# Altium integrated library Altium_WCAP-CSGP (rev22a).IntLib: 953 symbols (part 13 of 17)
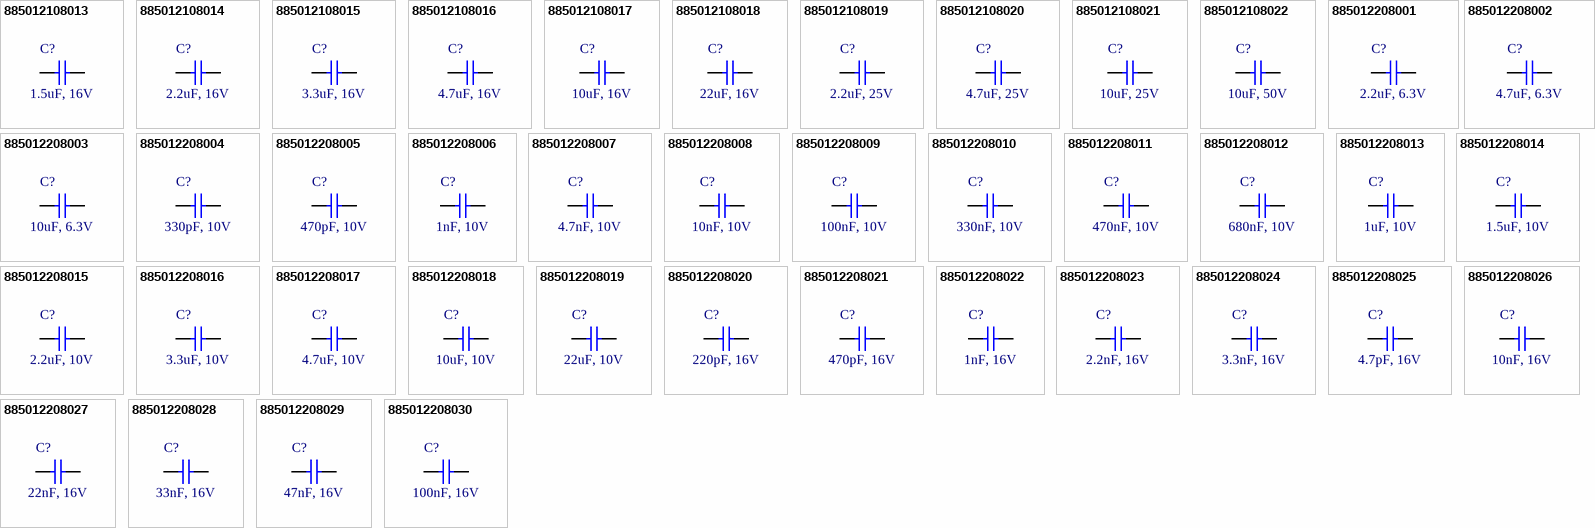
[diagram p39: symbols 885012108013 to 885012208030]

## 885012108014
designator C?, comment 2.2uF, 16V
WCAP-CSGP Multilayer Ceramic Chip Capacitor, General Purpose, size 1206, X5R, 2.2uF, 16V; Manufacturer: Wurth Elektronik; Manufacturer Part Number: 885012108014; Capacitance Tolerance: +/-20%; Dissipation Factor: 5%; Isolation Resistance: 0.2GOhm; Technical Reference: X5R1206225M016DFCT10000; Capacitance: 2.2uF; Ceramic Type: X5R; ComponentLink1Description: Manufacturer Link; ComponentLink1URL: http://www.we-online.de; ComponentLink2Description: Datasheet; ComponentLink2URL: https://www.we-online.com/catalog/datasheet/885012108014.pdf; Height: 1.15mm; Length: 3.2mm; Mounting Technology: SMT; Operating Temperature max.: 85C; Operating Temperature min.: -55C; Packaging: Tape and Reel; Rated Voltage: 16V; Size: 1206; Width: 1.6mm
footprint WCAP-CSGP_1206_L3.2W1.6H1.15
pins: 1, 2

## 885012108015
designator C?, comment 3.3uF, 16V
WCAP-CSGP Multilayer Ceramic Chip Capacitor, General Purpose, size 1206, X5R, 3.3uF, 16V; Manufacturer: Wurth Elektronik; Manufacturer Part Number: 885012108015; Capacitance Tolerance: +/-20%; Dissipation Factor: 5%; Isolation Resistance: 0.2GOhm; Technical Reference: X5R1206335M016DFCT10000; Capacitance: 3.3uF; Ceramic Type: X5R; ComponentLink1Description: Manufacturer Link; ComponentLink1URL: http://www.we-online.de; ComponentLink2Description: Datasheet; ComponentLink2URL: https://www.we-online.com/catalog/datasheet/885012108015.pdf; Height: 1.6mm; Length: 3.2mm; Mounting Technology: SMT; Operating Temperature max.: 85C; Operating Temperature min.: -55C; Packaging: Tape and Reel; Rated Voltage: 16V; Size: 1206; Width: 1.6mm
footprint WCAP-CSGP_1206_L3.2W1.6H1.6
pins: 1, 2

## 885012108016
designator C?, comment 4.7uF, 16V
WCAP-CSGP Multilayer Ceramic Chip Capacitor, General Purpose, size 1206, X5R, 4.7uF, 16V; Manufacturer: Wurth Elektronik; Manufacturer Part Number: 885012108016; Capacitance Tolerance: +/-20%; Dissipation Factor: 10%; Isolation Resistance: 0.1GOhm; Technical Reference: X5R1206475M016DFCT10000; Capacitance: 4.7uF; Ceramic Type: X5R; ComponentLink1Description: Manufacturer Link; ComponentLink1URL: http://www.we-online.de; ComponentLink2Description: Datasheet; ComponentLink2URL: https://www.we-online.com/catalog/datasheet/885012108016.pdf; Height: 1.6mm; Length: 3.2mm; Mounting Technology: SMT; Operating Temperature max.: 85C; Operating Temperature min.: -55C; Packaging: Tape and Reel; Rated Voltage: 16V; Size: 1206; Width: 1.6mm
footprint WCAP-CSGP_1206_L3.2W1.6H1.6
pins: 1, 2

## 885012108017
designator C?, comment 10uF, 16V
WCAP-CSGP Multilayer Ceramic Chip Capacitor, General Purpose, size 1206, X5R, 10uF, 16V; Manufacturer: Wurth Elektronik; Manufacturer Part Number: 885012108017; Capacitance Tolerance: +/-20%; Dissipation Factor: 10%; Isolation Resistance: 0.01GOhm; Technical Reference: X5R1206106M016DFCT10000; Capacitance: 10uF; Ceramic Type: X5R; ComponentLink1Description: Manufacturer Link; ComponentLink1URL: http://www.we-online.de; ComponentLink2Description: Datasheet; ComponentLink2URL: https://www.we-online.com/catalog/datasheet/885012108017.pdf; Height: 1.6mm; Length: 3.2mm; Mounting Technology: SMT; Operating Temperature max.: 85C; Operating Temperature min.: -55C; Packaging: Tape and Reel; Rated Voltage: 16V; Size: 1206; Width: 1.6mm
footprint WCAP-CSGP_1206_L3.2W1.6H1.6
pins: 1, 2

## 885012108018
designator C?, comment 22uF, 16V
WCAP-CSGP Multilayer Ceramic Chip Capacitor, General Purpose, size 1206, X5R, 22uF, 16V; Manufacturer: Wurth Elektronik; Manufacturer Part Number: 885012108018; Capacitance Tolerance: +/-20%; Dissipation Factor: 10%; Isolation Resistance: 0.005GOhm; Technical Reference: X5R1206226M016DFCT10000; Capacitance: 22uF; Ceramic Type: X5R; ComponentLink1Description: Manufacturer Link; ComponentLink1URL: http://www.we-online.de; ComponentLink2Description: Datasheet; ComponentLink2URL: https://www.we-online.com/catalog/datasheet/885012108018.pdf; Height: 1.6mm; Length: 3.2mm; Mounting Technology: SMT; Operating Temperature max.: 85C; Operating Temperature min.: -55C; Packaging: Tape and Reel; Rated Voltage: 16V; Size: 1206; Width: 1.6mm
footprint WCAP-CSGP_1206_L3.2W1.6H1.6
pins: 1, 2

## 885012108019
designator C?, comment 2.2uF, 25V
WCAP-CSGP Multilayer Ceramic Chip Capacitor, General Purpose, size 1206, X5R, 2.2uF, 25V; Manufacturer: Wurth Elektronik; Manufacturer Part Number: 885012108019; Capacitance Tolerance: +/-20%; Dissipation Factor: 3.5%; Isolation Resistance: 0.2GOhm; Technical Reference: X5R1206225M025DFCT10000; Capacitance: 2.2uF; Ceramic Type: X5R; ComponentLink1Description: Manufacturer Link; ComponentLink1URL: http://www.we-online.de; ComponentLink2Description: Datasheet; ComponentLink2URL: https://www.we-online.com/catalog/datasheet/885012108019.pdf; Height: 1.6mm; Length: 3.2mm; Mounting Technology: SMT; Operating Temperature max.: 85C; Operating Temperature min.: -55C; Packaging: Tape and Reel; Rated Voltage: 25V; Size: 1206; Width: 1.6mm
footprint WCAP-CSGP_1206_L3.2W1.6H1.6
pins: 1, 2

## 885012108020
designator C?, comment 4.7uF, 25V
WCAP-CSGP Multilayer Ceramic Chip Capacitor, General Purpose, size 1206, X5R, 4.7uF, 25V; Manufacturer: Wurth Elektronik; Manufacturer Part Number: 885012108020; Capacitance Tolerance: +/-20%; Dissipation Factor: 7%; Isolation Resistance: 0.1GOhm; Technical Reference: X5R1206475M025DFCT10000; Capacitance: 4.7uF; Ceramic Type: X5R; ComponentLink1Description: Manufacturer Link; ComponentLink1URL: http://www.we-online.de; ComponentLink2Description: Datasheet; ComponentLink2URL: https://www.we-online.com/catalog/datasheet/885012108020.pdf; Height: 1.6mm; Length: 3.2mm; Mounting Technology: SMT; Operating Temperature max.: 85C; Operating Temperature min.: -55C; Packaging: Tape and Reel; Rated Voltage: 25V; Size: 1206; Width: 1.6mm
footprint WCAP-CSGP_1206_L3.2W1.6H1.6
pins: 1, 2

## 885012108021
designator C?, comment 10uF, 25V
WCAP-CSGP Multilayer Ceramic Chip Capacitor, General Purpose, size 1206, X5R, 10uF, 25V; Manufacturer: Wurth Elektronik; Manufacturer Part Number: 885012108021; Capacitance Tolerance: +/-20%; Dissipation Factor: 10%; Isolation Resistance: 0.01GOhm; Technical Reference: X5R1206106M025DFCT10000; Capacitance: 10uF; Ceramic Type: X5R; ComponentLink1Description: Manufacturer Link; ComponentLink1URL: http://www.we-online.de; ComponentLink2Description: Datasheet; ComponentLink2URL: https://www.we-online.com/catalog/datasheet/885012108021.pdf; Height: 1.6mm; Length: 3.2mm; Mounting Technology: SMT; Operating Temperature max.: 85C; Operating Temperature min.: -55C; Packaging: Tape and Reel; Rated Voltage: 25V; Size: 1206; Width: 1.6mm
footprint WCAP-CSGP_1206_L3.2W1.6H1.6
pins: 1, 2

## 885012108022
designator C?, comment 10uF, 50V
WCAP-CSGP Multilayer Ceramic Chip Capacitor, General Purpose, size 1206, X5R, 10uF, 50V; Manufacturer: Wurth Elektronik; Manufacturer Part Number: 885012108022; Capacitance Tolerance: +/-10%; Dissipation Factor: 10%; Isolation Resistance: 0.005GOhm; Technical Reference: X5R1206106K050DFCT10000; Capacitance: 10uF; Ceramic Type: X5R; ComponentLink1Description: Manufacturer Link; ComponentLink1URL: http://www.we-online.de; ComponentLink2Description: Datasheet; ComponentLink2URL: https://www.we-online.com/catalog/datasheet/885012108022.pdf; Height: 1.6mm; Length: 3.2mm; Mounting Technology: SMT; Operating Temperature max.: 85C; Operating Temperature min.: -55C; Packaging: Tape and Reel; Rated Voltage: 50V; Size: 1206; Width: 1.6mm
footprint WCAP-CSGP_1206_L3.2W1.6H1.6
pins: 1, 2

## 885012208001
designator C?, comment 2.2uF, 6.3V
WCAP-CSGP Multilayer Ceramic Chip Capacitor, General Purpose, size 1206, X7R, 2.2uF, 6.3V; Manufacturer: Wurth Elektronik; Manufacturer Part Number: 885012208001; Capacitance Tolerance: +/-10%; Dissipation Factor: 10%; Isolation Resistance: 0.05GOhm; Technical Reference: X7R1206225K6R3DFCT10000; Capacitance: 2.2uF; Ceramic Type: X7R; ComponentLink1Description: Manufacturer Link; ComponentLink1URL: http://www.we-online.de; ComponentLink2Description: Datasheet; ComponentLink2URL: https://www.we-online.com/catalog/datasheet/885012208001.pdf; Height: 1.15mm; Length: 3.2mm; Mounting Technology: SMT; Operating Temperature max.: 125C; Operating Temperature min.: -55C; Packaging: Tape and Reel; Rated Voltage: 6.3V; Size: 1206; Width: 1.6mm
footprint WCAP-CSGP_1206_L3.2W1.6H1.15
pins: 1, 2

## 885012208002
designator C?, comment 4.7uF, 6.3V
WCAP-CSGP Multilayer Ceramic Chip Capacitor, General Purpose, size 1206, X7R, 4.7uF, 6.3V; Manufacturer: Wurth Elektronik; Manufacturer Part Number: 885012208002; Capacitance Tolerance: +/-10%; Dissipation Factor: 10%; Isolation Resistance: 0.02GOhm; Technical Reference: X7R1206475K6R3DFCT10000; Capacitance: 4.7uF; Ceramic Type: X7R; ComponentLink1Description: Manufacturer Link; ComponentLink1URL: http://www.we-online.de; ComponentLink2Description: Datasheet; ComponentLink2URL: https://www.we-online.com/catalog/datasheet/885012208002.pdf; Height: 1.6mm; Length: 3.2mm; Mounting Technology: SMT; Operating Temperature max.: 125C; Operating Temperature min.: -55C; Packaging: Tape and Reel; Rated Voltage: 6.3V; Size: 1206; Width: 1.6mm
footprint WCAP-CSGP_1206_L3.2W1.6H1.6
pins: 1, 2

## 885012208003
designator C?, comment 10uF, 6.3V
WCAP-CSGP Multilayer Ceramic Chip Capacitor, General Purpose, size 1206, X7R, 10uF, 6.3V; Manufacturer: Wurth Elektronik; Manufacturer Part Number: 885012208003; Capacitance Tolerance: +/-10%; Dissipation Factor: 10%; Isolation Resistance: 0.005GOhm; Technical Reference: X7R1206106K6R3DFCT10000; Capacitance: 10uF; Ceramic Type: X7R; ComponentLink1Description: Manufacturer Link; ComponentLink1URL: http://www.we-online.de; ComponentLink2Description: Datasheet; ComponentLink2URL: https://www.we-online.com/catalog/datasheet/885012208003.pdf; Height: 1.6mm; Length: 3.2mm; Mounting Technology: SMT; Operating Temperature max.: 125C; Operating Temperature min.: -55C; Packaging: Tape and Reel; Rated Voltage: 6.3V; Size: 1206; Width: 1.6mm
footprint WCAP-CSGP_1206_L3.2W1.6H1.6
pins: 1, 2

## 885012208004
designator C?, comment 330pF, 10V
WCAP-CSGP Multilayer Ceramic Chip Capacitor, General Purpose, size 1206, X7R, 330pF, 10V; Manufacturer: Wurth Elektronik; Manufacturer Part Number: 885012208004; Capacitance Tolerance: +/-10%; Dissipation Factor: 5%; Isolation Resistance: 10GOhm; Technical Reference: X7R1206331K010DFCT10000; Capacitance: 330pF; Ceramic Type: X7R; ComponentLink1Description: Manufacturer Link; ComponentLink1URL: http://www.we-online.de; ComponentLink2Description: Datasheet; ComponentLink2URL: https://www.we-online.com/catalog/datasheet/885012208004.pdf; Height: 0.8mm; Length: 3.2mm; Mounting Technology: SMT; Operating Temperature max.: 125C; Operating Temperature min.: -55C; Packaging: Tape and Reel; Rated Voltage: 10V; Size: 1206; Width: 1.6mm
footprint WCAP-CSGP_1206_L3.2W1.6H0.8
pins: 1, 2

## 885012208005
designator C?, comment 470pF, 10V
WCAP-CSGP Multilayer Ceramic Chip Capacitor, General Purpose, size 1206, X7R, 470pF, 10V; Manufacturer: Wurth Elektronik; Manufacturer Part Number: 885012208005; Capacitance Tolerance: +/-10%; Dissipation Factor: 5%; Isolation Resistance: 10GOhm; Technical Reference: X7R1206471K010DFCT10000; Capacitance: 470pF; Ceramic Type: X7R; ComponentLink1Description: Manufacturer Link; ComponentLink1URL: http://www.we-online.de; ComponentLink2Description: Datasheet; ComponentLink2URL: https://www.we-online.com/catalog/datasheet/885012208005.pdf; Height: 0.8mm; Length: 3.2mm; Mounting Technology: SMT; Operating Temperature max.: 125C; Operating Temperature min.: -55C; Packaging: Tape and Reel; Rated Voltage: 10V; Size: 1206; Width: 1.6mm
footprint WCAP-CSGP_1206_L3.2W1.6H0.8
pins: 1, 2

## 885012208006
designator C?, comment 1nF, 10V
WCAP-CSGP Multilayer Ceramic Chip Capacitor, General Purpose, size 1206, X7R, 1nF, 10V; Manufacturer: Wurth Elektronik; Manufacturer Part Number: 885012208006; Capacitance Tolerance: +/-10%; Dissipation Factor: 5%; Isolation Resistance: 10GOhm; Technical Reference: X7R1206102K010DFCT10000; Capacitance: 1nF; Ceramic Type: X7R; ComponentLink1Description: Manufacturer Link; ComponentLink1URL: http://www.we-online.de; ComponentLink2Description: Datasheet; ComponentLink2URL: https://www.we-online.com/catalog/datasheet/885012208006.pdf; Height: 0.8mm; Length: 3.2mm; Mounting Technology: SMT; Operating Temperature max.: 125C; Operating Temperature min.: -55C; Packaging: Tape and Reel; Rated Voltage: 10V; Size: 1206; Width: 1.6mm
footprint WCAP-CSGP_1206_L3.2W1.6H0.8
pins: 1, 2

## 885012208007
designator C?, comment 4.7nF, 10V
WCAP-CSGP Multilayer Ceramic Chip Capacitor, General Purpose, size 1206, X7R, 4.7nF, 10V; Manufacturer: Wurth Elektronik; Manufacturer Part Number: 885012208007; Capacitance Tolerance: +/-10%; Dissipation Factor: 5%; Isolation Resistance: 10GOhm; Technical Reference: X7R1206472K010DFCT10000; Capacitance: 4.7nF; Ceramic Type: X7R; ComponentLink1Description: Manufacturer Link; ComponentLink1URL: http://www.we-online.de; ComponentLink2Description: Datasheet; ComponentLink2URL: https://www.we-online.com/catalog/datasheet/885012208007.pdf; Height: 0.8mm; Length: 3.2mm; Mounting Technology: SMT; Operating Temperature max.: 125C; Operating Temperature min.: -55C; Packaging: Tape and Reel; Rated Voltage: 10V; Size: 1206; Width: 1.6mm
footprint WCAP-CSGP_1206_L3.2W1.6H0.8
pins: 1, 2

## 885012208008
designator C?, comment 10nF, 10V
WCAP-CSGP Multilayer Ceramic Chip Capacitor, General Purpose, size 1206, X7R, 10nF, 10V; Manufacturer: Wurth Elektronik; Manufacturer Part Number: 885012208008; Capacitance Tolerance: +/-10%; Dissipation Factor: 5%; Isolation Resistance: 10GOhm; Technical Reference: X7R1206103K010DFCT10000; Capacitance: 10nF; Ceramic Type: X7R; ComponentLink1Description: Manufacturer Link; ComponentLink1URL: http://www.we-online.de; ComponentLink2Description: Datasheet; ComponentLink2URL: https://www.we-online.com/catalog/datasheet/885012208008.pdf; Height: 0.8mm; Length: 3.2mm; Mounting Technology: SMT; Operating Temperature max.: 125C; Operating Temperature min.: -55C; Packaging: Tape and Reel; Rated Voltage: 10V; Size: 1206; Width: 1.6mm
footprint WCAP-CSGP_1206_L3.2W1.6H0.8
pins: 1, 2

## 885012208009
designator C?, comment 100nF, 10V
WCAP-CSGP Multilayer Ceramic Chip Capacitor, General Purpose, size 1206, X7R, 100nF, 10V; Manufacturer: Wurth Elektronik; Manufacturer Part Number: 885012208009; Capacitance Tolerance: +/-10%; Dissipation Factor: 5%; Isolation Resistance: 5GOhm; Technical Reference: X7R1206104K010DFCT10000; Capacitance: 100nF; Ceramic Type: X7R; ComponentLink1Description: Manufacturer Link; ComponentLink1URL: http://www.we-online.de; ComponentLink2Description: Datasheet; ComponentLink2URL: https://www.we-online.com/catalog/datasheet/885012208009.pdf; Height: 0.8mm; Length: 3.2mm; Mounting Technology: SMT; Operating Temperature max.: 125C; Operating Temperature min.: -55C; Packaging: Tape and Reel; Rated Voltage: 10V; Size: 1206; Width: 1.6mm
footprint WCAP-CSGP_1206_L3.2W1.6H0.8
pins: 1, 2

## 885012208010
designator C?, comment 330nF, 10V
WCAP-CSGP Multilayer Ceramic Chip Capacitor, General Purpose, size 1206, X7R, 330nF, 10V; Manufacturer: Wurth Elektronik; Manufacturer Part Number: 885012208010; Capacitance Tolerance: +/-10%; Dissipation Factor: 5%; Isolation Resistance: 1.5GOhm; Technical Reference: X7R1206334K010DFCT10000; Capacitance: 330nF; Ceramic Type: X7R; ComponentLink1Description: Manufacturer Link; ComponentLink1URL: http://www.we-online.de; ComponentLink2Description: Datasheet; ComponentLink2URL: https://www.we-online.com/catalog/datasheet/885012208010.pdf; Height: 0.95mm; Length: 3.2mm; Mounting Technology: SMT; Operating Temperature max.: 125C; Operating Temperature min.: -55C; Packaging: Tape and Reel; Rated Voltage: 10V; Size: 1206; Width: 1.6mm
footprint WCAP-CSGP_1206_L3.2W1.6H0.95
pins: 1, 2

## 885012208011
designator C?, comment 470nF, 10V
WCAP-CSGP Multilayer Ceramic Chip Capacitor, General Purpose, size 1206, X7R, 470nF, 10V; Manufacturer: Wurth Elektronik; Manufacturer Part Number: 885012208011; Capacitance Tolerance: +/-10%; Dissipation Factor: 5%; Isolation Resistance: 1.1GOhm; Technical Reference: X7R1206474K010DFCT10000; Capacitance: 470nF; Ceramic Type: X7R; ComponentLink1Description: Manufacturer Link; ComponentLink1URL: http://www.we-online.de; ComponentLink2Description: Datasheet; ComponentLink2URL: https://www.we-online.com/catalog/datasheet/885012208011.pdf; Height: 1.15mm; Length: 3.2mm; Mounting Technology: SMT; Operating Temperature max.: 125C; Operating Temperature min.: -55C; Packaging: Tape and Reel; Rated Voltage: 10V; Size: 1206; Width: 1.6mm
footprint WCAP-CSGP_1206_L3.2W1.6H1.15
pins: 1, 2

## 885012208012
designator C?, comment 680nF, 10V
WCAP-CSGP Multilayer Ceramic Chip Capacitor, General Purpose, size 1206, X7R, 680nF, 10V; Manufacturer: Wurth Elektronik; Manufacturer Part Number: 885012208012; Capacitance Tolerance: +/-10%; Dissipation Factor: 5%; Isolation Resistance: 0.7GOhm; Technical Reference: X7R1206684K010DFCT10000; Capacitance: 680nF; Ceramic Type: X7R; ComponentLink1Description: Manufacturer Link; ComponentLink1URL: http://www.we-online.de; ComponentLink2Description: Datasheet; ComponentLink2URL: https://www.we-online.com/catalog/datasheet/885012208012.pdf; Height: 1.15mm; Length: 3.2mm; Mounting Technology: SMT; Operating Temperature max.: 125C; Operating Temperature min.: -55C; Packaging: Tape and Reel; Rated Voltage: 10V; Size: 1206; Width: 1.6mm
footprint WCAP-CSGP_1206_L3.2W1.6H1.15
pins: 1, 2

## 885012208013
designator C?, comment 1uF, 10V
WCAP-CSGP Multilayer Ceramic Chip Capacitor, General Purpose, size 1206, X7R, 1uF, 10V; Manufacturer: Wurth Elektronik; Manufacturer Part Number: 885012208013; Capacitance Tolerance: +/-10%; Dissipation Factor: 5%; Isolation Resistance: 0.5GOhm; Technical Reference: X7R1206105K010DFCT10000; Capacitance: 1uF; Ceramic Type: X7R; ComponentLink1Description: Manufacturer Link; ComponentLink1URL: http://www.we-online.de; ComponentLink2Description: Datasheet; ComponentLink2URL: https://www.we-online.com/catalog/datasheet/885012208013.pdf; Height: 1.15mm; Length: 3.2mm; Mounting Technology: SMT; Operating Temperature max.: 125C; Operating Temperature min.: -55C; Packaging: Tape and Reel; Rated Voltage: 10V; Size: 1206; Width: 1.6mm
footprint WCAP-CSGP_1206_L3.2W1.6H1.15
pins: 1, 2

## 885012208014
designator C?, comment 1.5uF, 10V
WCAP-CSGP Multilayer Ceramic Chip Capacitor, General Purpose, size 1206, X7R, 1.5uF, 10V; Manufacturer: Wurth Elektronik; Manufacturer Part Number: 885012208014; Capacitance Tolerance: +/-10%; Dissipation Factor: 5%; Isolation Resistance: 0.3GOhm; Technical Reference: X7R1206155K010DFCT10000; Capacitance: 1.5uF; Ceramic Type: X7R; ComponentLink1Description: Manufacturer Link; ComponentLink1URL: http://www.we-online.de; ComponentLink2Description: Datasheet; ComponentLink2URL: https://www.we-online.com/catalog/datasheet/885012208014.pdf; Height: 1.15mm; Length: 3.2mm; Mounting Technology: SMT; Operating Temperature max.: 125C; Operating Temperature min.: -55C; Packaging: Tape and Reel; Rated Voltage: 10V; Size: 1206; Width: 1.6mm
footprint WCAP-CSGP_1206_L3.2W1.6H1.15
pins: 1, 2

## 885012208015
designator C?, comment 2.2uF, 10V
WCAP-CSGP Multilayer Ceramic Chip Capacitor, General Purpose, size 1206, X7R, 2.2uF, 10V; Manufacturer: Wurth Elektronik; Manufacturer Part Number: 885012208015; Capacitance Tolerance: +/-10%; Dissipation Factor: 10%; Isolation Resistance: 0.2GOhm; Technical Reference: X7R1206225K010DFCT10000; Capacitance: 2.2uF; Ceramic Type: X7R; ComponentLink1Description: Manufacturer Link; ComponentLink1URL: http://www.we-online.de; ComponentLink2Description: Datasheet; ComponentLink2URL: https://www.we-online.com/catalog/datasheet/885012208015.pdf; Height: 1.15mm; Length: 3.2mm; Mounting Technology: SMT; Operating Temperature max.: 125C; Operating Temperature min.: -55C; Packaging: Tape and Reel; Rated Voltage: 10V; Size: 1206; Width: 1.6mm
footprint WCAP-CSGP_1206_L3.2W1.6H1.15
pins: 1, 2

## 885012208016
designator C?, comment 3.3uF, 10V
WCAP-CSGP Multilayer Ceramic Chip Capacitor, General Purpose, size 1206, X7R, 3.3uF, 10V; Manufacturer: Wurth Elektronik; Manufacturer Part Number: 885012208016; Capacitance Tolerance: +/-10%; Dissipation Factor: 10%; Isolation Resistance: 0.2GOhm; Technical Reference: X7R1206335K010DFCT10000; Capacitance: 3.3uF; Ceramic Type: X7R; ComponentLink1Description: Manufacturer Link; ComponentLink1URL: http://www.we-online.de; ComponentLink2Description: Datasheet; ComponentLink2URL: https://www.we-online.com/catalog/datasheet/885012208016.pdf; Height: 1.6mm; Length: 3.2mm; Mounting Technology: SMT; Operating Temperature max.: 125C; Operating Temperature min.: -55C; Packaging: Tape and Reel; Rated Voltage: 10V; Size: 1206; Width: 1.6mm
footprint WCAP-CSGP_1206_L3.2W1.6H1.6
pins: 1, 2

## 885012208017
designator C?, comment 4.7uF, 10V
WCAP-CSGP Multilayer Ceramic Chip Capacitor, General Purpose, size 1206, X7R, 4.7uF, 10V; Manufacturer: Wurth Elektronik; Manufacturer Part Number: 885012208017; Capacitance Tolerance: +/-10%; Dissipation Factor: 10%; Isolation Resistance: 0.02GOhm; Technical Reference: X7R1206475K010DFCT10000; Capacitance: 4.7uF; Ceramic Type: X7R; ComponentLink1Description: Manufacturer Link; ComponentLink1URL: http://www.we-online.de; ComponentLink2Description: Datasheet; ComponentLink2URL: https://www.we-online.com/catalog/datasheet/885012208017.pdf; Height: 1.6mm; Length: 3.2mm; Mounting Technology: SMT; Operating Temperature max.: 125C; Operating Temperature min.: -55C; Packaging: Tape and Reel; Rated Voltage: 10V; Size: 1206; Width: 1.6mm
footprint WCAP-CSGP_1206_L3.2W1.6H1.6
pins: 1, 2

## 885012208018
designator C?, comment 10uF, 10V
WCAP-CSGP Multilayer Ceramic Chip Capacitor, General Purpose, size 1206, X7R, 10uF, 10V; Manufacturer: Wurth Elektronik; Manufacturer Part Number: 885012208018; Capacitance Tolerance: +/-10%; Dissipation Factor: 10%; Isolation Resistance: 0.01GOhm; Technical Reference: X7R1206106K010DFCT10000; Capacitance: 10uF; Ceramic Type: X7R; ComponentLink1Description: Manufacturer Link; ComponentLink1URL: http://www.we-online.de; ComponentLink2Description: Datasheet; ComponentLink2URL: https://www.we-online.com/catalog/datasheet/885012208018.pdf; Height: 1.6mm; Length: 3.2mm; Mounting Technology: SMT; Operating Temperature max.: 125C; Operating Temperature min.: -55C; Packaging: Tape and Reel; Rated Voltage: 10V; Size: 1206; Width: 1.6mm
footprint WCAP-CSGP_1206_L3.2W1.6H1.6
pins: 1, 2

## 885012208019
designator C?, comment 22uF, 10V
WCAP-CSGP Multilayer Ceramic Chip Capacitor, General Purpose, size 1206, X7R, 22uF, 10V; Manufacturer: Wurth Elektronik; Manufacturer Part Number: 885012208019; Capacitance Tolerance: +/-10%; Dissipation Factor: 10%; Isolation Resistance: 0.005GOhm; Technical Reference: X7R1206226K010DFCT10000; Capacitance: 22uF; Ceramic Type: X7R; ComponentLink1Description: Manufacturer Link; ComponentLink1URL: http://www.we-online.de; ComponentLink2Description: Datasheet; ComponentLink2URL: https://www.we-online.com/catalog/datasheet/885012208019.pdf; Height: 1.6mm; Length: 3.2mm; Mounting Technology: SMT; Operating Temperature max.: 125C; Operating Temperature min.: -55C; Packaging: Tape and Reel; Rated Voltage: 10V; Size: 1206; Width: 1.6mm
footprint WCAP-CSGP_1206_L3.2W1.6H1.6
pins: 1, 2

## 885012208020
designator C?, comment 220pF, 16V
WCAP-CSGP Multilayer Ceramic Chip Capacitor, General Purpose, size 1206, X7R, 220pF, 16V; Manufacturer: Wurth Elektronik; Manufacturer Part Number: 885012208020; Capacitance Tolerance: +/-10%; Dissipation Factor: 3.5%; Isolation Resistance: 10GOhm; Technical Reference: X7R1206221K016DFCT10000; Capacitance: 220pF; Ceramic Type: X7R; ComponentLink1Description: Manufacturer Link; ComponentLink1URL: http://www.we-online.de; ComponentLink2Description: Datasheet; ComponentLink2URL: https://www.we-online.com/catalog/datasheet/885012208020.pdf; Height: 0.8mm; Length: 3.2mm; Mounting Technology: SMT; Operating Temperature max.: 125C; Operating Temperature min.: -55C; Packaging: Tape and Reel; Rated Voltage: 16V; Size: 1206; Width: 1.6mm
footprint WCAP-CSGP_1206_L3.2W1.6H0.8
pins: 1, 2

## 885012208021
designator C?, comment 470pF, 16V
WCAP-CSGP Multilayer Ceramic Chip Capacitor, General Purpose, size 1206, X7R, 470pF, 16V; Manufacturer: Wurth Elektronik; Manufacturer Part Number: 885012208021; Capacitance Tolerance: +/-10%; Dissipation Factor: 3.5%; Isolation Resistance: 10GOhm; Technical Reference: X7R1206471K016DFCT10000; Capacitance: 470pF; Ceramic Type: X7R; ComponentLink1Description: Manufacturer Link; ComponentLink1URL: http://www.we-online.de; ComponentLink2Description: Datasheet; ComponentLink2URL: https://www.we-online.com/catalog/datasheet/885012208021.pdf; Height: 0.8mm; Length: 3.2mm; Mounting Technology: SMT; Operating Temperature max.: 125C; Operating Temperature min.: -55C; Packaging: Tape and Reel; Rated Voltage: 16V; Size: 1206; Width: 1.6mm
footprint WCAP-CSGP_1206_L3.2W1.6H0.8
pins: 1, 2

## 885012208022
designator C?, comment 1nF, 16V
WCAP-CSGP Multilayer Ceramic Chip Capacitor, General Purpose, size 1206, X7R, 1nF, 16V; Manufacturer: Wurth Elektronik; Manufacturer Part Number: 885012208022; Capacitance Tolerance: +/-10%; Dissipation Factor: 3.5%; Isolation Resistance: 10GOhm; Technical Reference: X7R1206102K016DFCT10000; Capacitance: 1nF; Ceramic Type: X7R; ComponentLink1Description: Manufacturer Link; ComponentLink1URL: http://www.we-online.de; ComponentLink2Description: Datasheet; ComponentLink2URL: https://www.we-online.com/catalog/datasheet/885012208022.pdf; Height: 0.8mm; Length: 3.2mm; Mounting Technology: SMT; Operating Temperature max.: 125C; Operating Temperature min.: -55C; Packaging: Tape and Reel; Rated Voltage: 16V; Size: 1206; Width: 1.6mm
footprint WCAP-CSGP_1206_L3.2W1.6H0.8
pins: 1, 2

## 885012208023
designator C?, comment 2.2nF, 16V
WCAP-CSGP Multilayer Ceramic Chip Capacitor, General Purpose, size 1206, X7R, 2.2nF, 16V; Manufacturer: Wurth Elektronik; Manufacturer Part Number: 885012208023; Capacitance Tolerance: +/-10%; Dissipation Factor: 3.5%; Isolation Resistance: 10GOhm; Technical Reference: X7R1206222K016DFCT10000; Capacitance: 2.2nF; Ceramic Type: X7R; ComponentLink1Description: Manufacturer Link; ComponentLink1URL: http://www.we-online.de; ComponentLink2Description: Datasheet; ComponentLink2URL: https://www.we-online.com/catalog/datasheet/885012208023.pdf; Height: 0.8mm; Length: 3.2mm; Mounting Technology: SMT; Operating Temperature max.: 125C; Operating Temperature min.: -55C; Packaging: Tape and Reel; Rated Voltage: 16V; Size: 1206; Width: 1.6mm
footprint WCAP-CSGP_1206_L3.2W1.6H0.8
pins: 1, 2

## 885012208024
designator C?, comment 3.3nF, 16V
WCAP-CSGP Multilayer Ceramic Chip Capacitor, General Purpose, size 1206, X7R, 3.3nF, 16V; Manufacturer: Wurth Elektronik; Manufacturer Part Number: 885012208024; Capacitance Tolerance: +/-10%; Dissipation Factor: 3.5%; Isolation Resistance: 10GOhm; Technical Reference: X7R1206332K016DFCT10000; Capacitance: 3.3nF; Ceramic Type: X7R; ComponentLink1Description: Manufacturer Link; ComponentLink1URL: http://www.we-online.de; ComponentLink2Description: Datasheet; ComponentLink2URL: https://www.we-online.com/catalog/datasheet/885012208024.pdf; Height: 0.8mm; Length: 3.2mm; Mounting Technology: SMT; Operating Temperature max.: 125C; Operating Temperature min.: -55C; Packaging: Tape and Reel; Rated Voltage: 16V; Size: 1206; Width: 1.6mm
footprint WCAP-CSGP_1206_L3.2W1.6H0.8
pins: 1, 2

## 885012208025
designator C?, comment 4.7pF, 16V
WCAP-CSGP Multilayer Ceramic Chip Capacitor, General Purpose, size 1206, X7R, 4.7pF, 16V; Manufacturer: Wurth Elektronik; Manufacturer Part Number: 885012208025; Capacitance Tolerance: +/-10%; Dissipation Factor: 3.5%; Isolation Resistance: 10GOhm; Technical Reference: X7R1206472K016DFCT10000; Capacitance: 4.7pF; Ceramic Type: X7R; ComponentLink1Description: Manufacturer Link; ComponentLink1URL: http://www.we-online.de; ComponentLink2Description: Datasheet; ComponentLink2URL: https://www.we-online.com/catalog/datasheet/885012208025.pdf; Height: 0.8mm; Length: 3.2mm; Mounting Technology: SMT; Operating Temperature max.: 125C; Operating Temperature min.: -55C; Packaging: Tape and Reel; Rated Voltage: 16V; Size: 1206; Width: 1.6mm
footprint WCAP-CSGP_1206_L3.2W1.6H0.8
pins: 1, 2

## 885012208026
designator C?, comment 10nF, 16V
WCAP-CSGP Multilayer Ceramic Chip Capacitor, General Purpose, size 1206, X7R, 10nF, 16V; Manufacturer: Wurth Elektronik; Manufacturer Part Number: 885012208026; Capacitance Tolerance: +/-10%; Dissipation Factor: 3.5%; Isolation Resistance: 10GOhm; Technical Reference: X7R1206103K016DFCT10000; Capacitance: 10nF; Ceramic Type: X7R; ComponentLink1Description: Manufacturer Link; ComponentLink1URL: http://www.we-online.de; ComponentLink2Description: Datasheet; ComponentLink2URL: https://www.we-online.com/catalog/datasheet/885012208026.pdf; Height: 0.8mm; Length: 3.2mm; Mounting Technology: SMT; Operating Temperature max.: 125C; Operating Temperature min.: -55C; Packaging: Tape and Reel; Rated Voltage: 16V; Size: 1206; Width: 1.6mm
footprint WCAP-CSGP_1206_L3.2W1.6H0.8
pins: 1, 2

## 885012208027
designator C?, comment 22nF, 16V
WCAP-CSGP Multilayer Ceramic Chip Capacitor, General Purpose, size 1206, X7R, 22nF, 16V; Manufacturer: Wurth Elektronik; Manufacturer Part Number: 885012208027; Capacitance Tolerance: +/-10%; Dissipation Factor: 3.5%; Isolation Resistance: 10GOhm; Technical Reference: X7R1206223K016DFCT10000; Capacitance: 22nF; Ceramic Type: X7R; ComponentLink1Description: Manufacturer Link; ComponentLink1URL: http://www.we-online.de; ComponentLink2Description: Datasheet; ComponentLink2URL: https://www.we-online.com/catalog/datasheet/885012208027.pdf; Height: 0.8mm; Length: 3.2mm; Mounting Technology: SMT; Operating Temperature max.: 125C; Operating Temperature min.: -55C; Packaging: Tape and Reel; Rated Voltage: 16V; Size: 1206; Width: 1.6mm
footprint WCAP-CSGP_1206_L3.2W1.6H0.8
pins: 1, 2

## 885012208028
designator C?, comment 33nF, 16V
WCAP-CSGP Multilayer Ceramic Chip Capacitor, General Purpose, size 1206, X7R, 33nF, 16V; Manufacturer: Wurth Elektronik; Manufacturer Part Number: 885012208028; Capacitance Tolerance: +/-10%; Dissipation Factor: 3.5%; Isolation Resistance: 10GOhm; Technical Reference: X7R1206333K016DFCT10000; Capacitance: 33nF; Ceramic Type: X7R; ComponentLink1Description: Manufacturer Link; ComponentLink1URL: http://www.we-online.de; ComponentLink2Description: Datasheet; ComponentLink2URL: https://www.we-online.com/catalog/datasheet/885012208028.pdf; Height: 0.8mm; Length: 3.2mm; Mounting Technology: SMT; Operating Temperature max.: 125C; Operating Temperature min.: -55C; Packaging: Tape and Reel; Rated Voltage: 16V; Size: 1206; Width: 1.6mm
footprint WCAP-CSGP_1206_L3.2W1.6H0.8
pins: 1, 2

## 885012208029
designator C?, comment 47nF, 16V
WCAP-CSGP Multilayer Ceramic Chip Capacitor, General Purpose, size 1206, X7R, 47nF, 16V; Manufacturer: Wurth Elektronik; Manufacturer Part Number: 885012208029; Capacitance Tolerance: +/-10%; Dissipation Factor: 3.5%; Isolation Resistance: 10GOhm; Technical Reference: X7R1206473K016DFCT10000; Capacitance: 47nF; Ceramic Type: X7R; ComponentLink1Description: Manufacturer Link; ComponentLink1URL: http://www.we-online.de; ComponentLink2Description: Datasheet; ComponentLink2URL: https://www.we-online.com/catalog/datasheet/885012208029.pdf; Height: 0.8mm; Length: 3.2mm; Mounting Technology: SMT; Operating Temperature max.: 125C; Operating Temperature min.: -55C; Packaging: Tape and Reel; Rated Voltage: 16V; Size: 1206; Width: 1.6mm
footprint WCAP-CSGP_1206_L3.2W1.6H0.8
pins: 1, 2

## 885012208030
designator C?, comment 100nF, 16V
WCAP-CSGP Multilayer Ceramic Chip Capacitor, General Purpose, size 1206, X7R, 100nF, 16V; Manufacturer: Wurth Elektronik; Manufacturer Part Number: 885012208030; Capacitance Tolerance: +/-10%; Dissipation Factor: 3.5%; Isolation Resistance: 5GOhm; Technical Reference: X7R1206104K016DFCT10000; Capacitance: 100nF; Ceramic Type: X7R; ComponentLink1Description: Manufacturer Link; ComponentLink1URL: http://www.we-online.de; ComponentLink2Description: Datasheet; ComponentLink2URL: https://www.we-online.com/catalog/datasheet/885012208030.pdf; Height: 0.8mm; Length: 3.2mm; Mounting Technology: SMT; Operating Temperature max.: 125C; Operating Temperature min.: -55C; Packaging: Tape and Reel; Rated Voltage: 16V; Size: 1206; Width: 1.6mm
footprint WCAP-CSGP_1206_L3.2W1.6H0.8
pins: 1, 2

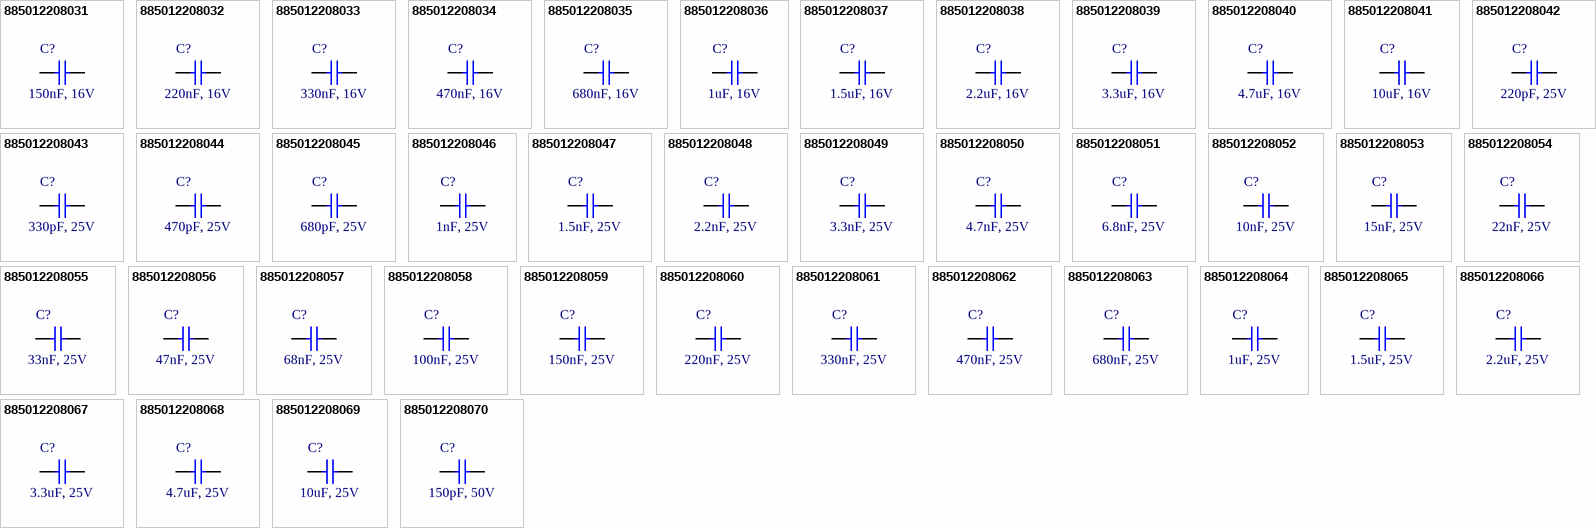
[diagram p20: symbols 885012208031 to 885012208070]

## 885012208031
designator C?, comment 150nF, 16V
WCAP-CSGP Multilayer Ceramic Chip Capacitor, General Purpose, size 1206, X7R, 150nF, 16V; Manufacturer: Wurth Elektronik; Manufacturer Part Number: 885012208031; Capacitance Tolerance: +/-10%; Dissipation Factor: 3.5%; Isolation Resistance: 3.3GOhm; Technical Reference: X7R1206154K016DFCT10000; Capacitance: 150nF; Ceramic Type: X7R; ComponentLink1Description: Manufacturer Link; ComponentLink1URL: http://www.we-online.de; ComponentLink2Description: Datasheet; ComponentLink2URL: https://www.we-online.com/catalog/datasheet/885012208031.pdf; Height: 0.95mm; Length: 3.2mm; Mounting Technology: SMT; Operating Temperature max.: 125C; Operating Temperature min.: -55C; Packaging: Tape and Reel; Rated Voltage: 16V; Size: 1206; Width: 1.6mm
footprint WCAP-CSGP_1206_L3.2W1.6H0.95
pins: 1, 2

## 885012208032
designator C?, comment 220nF, 16V
WCAP-CSGP Multilayer Ceramic Chip Capacitor, General Purpose, size 1206, X7R, 220nF, 16V; Manufacturer: Wurth Elektronik; Manufacturer Part Number: 885012208032; Capacitance Tolerance: +/-10%; Dissipation Factor: 3.5%; Isolation Resistance: 2.3GOhm; Technical Reference: X7R1206224K016DFCT10000; Capacitance: 220nF; Ceramic Type: X7R; ComponentLink1Description: Manufacturer Link; ComponentLink1URL: http://www.we-online.de; ComponentLink2Description: Datasheet; ComponentLink2URL: https://www.we-online.com/catalog/datasheet/885012208032.pdf; Height: 0.95mm; Length: 3.2mm; Mounting Technology: SMT; Operating Temperature max.: 125C; Operating Temperature min.: -55C; Packaging: Tape and Reel; Rated Voltage: 16V; Size: 1206; Width: 1.6mm
footprint WCAP-CSGP_1206_L3.2W1.6H0.95
pins: 1, 2

## 885012208033
designator C?, comment 330nF, 16V
WCAP-CSGP Multilayer Ceramic Chip Capacitor, General Purpose, size 1206, X7R, 330nF, 16V; Manufacturer: Wurth Elektronik; Manufacturer Part Number: 885012208033; Capacitance Tolerance: +/-10%; Dissipation Factor: 3.5%; Isolation Resistance: 1.5GOhm; Technical Reference: X7R1206334K016DFCT10000; Capacitance: 330nF; Ceramic Type: X7R; ComponentLink1Description: Manufacturer Link; ComponentLink1URL: http://www.we-online.de; ComponentLink2Description: Datasheet; ComponentLink2URL: https://www.we-online.com/catalog/datasheet/885012208033.pdf; Height: 0.95mm; Length: 3.2mm; Mounting Technology: SMT; Operating Temperature max.: 125C; Operating Temperature min.: -55C; Packaging: Tape and Reel; Rated Voltage: 16V; Size: 1206; Width: 1.6mm
footprint WCAP-CSGP_1206_L3.2W1.6H0.95
pins: 1, 2

## 885012208034
designator C?, comment 470nF, 16V
WCAP-CSGP Multilayer Ceramic Chip Capacitor, General Purpose, size 1206, X7R, 470nF, 16V; Manufacturer: Wurth Elektronik; Manufacturer Part Number: 885012208034; Capacitance Tolerance: +/-10%; Dissipation Factor: 3.5%; Isolation Resistance: 1.1GOhm; Technical Reference: X7R1206474K016DFCT10000; Capacitance: 470nF; Ceramic Type: X7R; ComponentLink1Description: Manufacturer Link; ComponentLink1URL: http://www.we-online.de; ComponentLink2Description: Datasheet; ComponentLink2URL: https://www.we-online.com/catalog/datasheet/885012208034.pdf; Height: 1.15mm; Length: 3.2mm; Mounting Technology: SMT; Operating Temperature max.: 125C; Operating Temperature min.: -55C; Packaging: Tape and Reel; Rated Voltage: 16V; Size: 1206; Width: 1.6mm
footprint WCAP-CSGP_1206_L3.2W1.6H1.15
pins: 1, 2

## 885012208035
designator C?, comment 680nF, 16V
WCAP-CSGP Multilayer Ceramic Chip Capacitor, General Purpose, size 1206, X7R, 680nF, 16V; Manufacturer: Wurth Elektronik; Manufacturer Part Number: 885012208035; Capacitance Tolerance: +/-10%; Dissipation Factor: 3.5%; Isolation Resistance: 0.7GOhm; Technical Reference: X7R1206684K016DFCT10000; Capacitance: 680nF; Ceramic Type: X7R; ComponentLink1Description: Manufacturer Link; ComponentLink1URL: http://www.we-online.de; ComponentLink2Description: Datasheet; ComponentLink2URL: https://www.we-online.com/catalog/datasheet/885012208035.pdf; Height: 1.15mm; Length: 3.2mm; Mounting Technology: SMT; Operating Temperature max.: 125C; Operating Temperature min.: -55C; Packaging: Tape and Reel; Rated Voltage: 16V; Size: 1206; Width: 1.6mm
footprint WCAP-CSGP_1206_L3.2W1.6H1.15
pins: 1, 2

## 885012208036
designator C?, comment 1uF, 16V
WCAP-CSGP Multilayer Ceramic Chip Capacitor, General Purpose, size 1206, X7R, 1uF, 16V; Manufacturer: Wurth Elektronik; Manufacturer Part Number: 885012208036; Capacitance Tolerance: +/-10%; Dissipation Factor: 3.5%; Isolation Resistance: 0.5GOhm; Technical Reference: X7R1206105K016DFCT10000; Capacitance: 1uF; Ceramic Type: X7R; ComponentLink1Description: Manufacturer Link; ComponentLink1URL: http://www.we-online.de; ComponentLink2Description: Datasheet; ComponentLink2URL: https://www.we-online.com/catalog/datasheet/885012208036.pdf; Height: 1.15mm; Length: 3.2mm; Mounting Technology: SMT; Operating Temperature max.: 125C; Operating Temperature min.: -55C; Packaging: Tape and Reel; Rated Voltage: 16V; Size: 1206; Width: 1.6mm
footprint WCAP-CSGP_1206_L3.2W1.6H1.15
pins: 1, 2

## 885012208037
designator C?, comment 1.5uF, 16V
WCAP-CSGP Multilayer Ceramic Chip Capacitor, General Purpose, size 1206, X7R, 1.5uF, 16V; Manufacturer: Wurth Elektronik; Manufacturer Part Number: 885012208037; Capacitance Tolerance: +/-10%; Dissipation Factor: 3.5%; Isolation Resistance: 0.3GOhm; Technical Reference: X7R1206155K016DFCT10000; Capacitance: 1.5uF; Ceramic Type: X7R; ComponentLink1Description: Manufacturer Link; ComponentLink1URL: http://www.we-online.de; ComponentLink2Description: Datasheet; ComponentLink2URL: https://www.we-online.com/catalog/datasheet/885012208037.pdf; Height: 1.15mm; Length: 3.2mm; Mounting Technology: SMT; Operating Temperature max.: 125C; Operating Temperature min.: -55C; Packaging: Tape and Reel; Rated Voltage: 16V; Size: 1206; Width: 1.6mm
footprint WCAP-CSGP_1206_L3.2W1.6H1.15
pins: 1, 2

## 885012208038
designator C?, comment 2.2uF, 16V
WCAP-CSGP Multilayer Ceramic Chip Capacitor, General Purpose, size 1206, X7R, 2.2uF, 16V; Manufacturer: Wurth Elektronik; Manufacturer Part Number: 885012208038; Capacitance Tolerance: +/-10%; Dissipation Factor: 5%; Isolation Resistance: 0.2GOhm; Technical Reference: X7R1206225K016DFCT10000; Capacitance: 2.2uF; Ceramic Type: X7R; ComponentLink1Description: Manufacturer Link; ComponentLink1URL: http://www.we-online.de; ComponentLink2Description: Datasheet; ComponentLink2URL: https://www.we-online.com/catalog/datasheet/885012208038.pdf; Height: 1.15mm; Length: 3.2mm; Mounting Technology: SMT; Operating Temperature max.: 125C; Operating Temperature min.: -55C; Packaging: Tape and Reel; Rated Voltage: 16V; Size: 1206; Width: 1.6mm
footprint WCAP-CSGP_1206_L3.2W1.6H1.15
pins: 1, 2

## 885012208039
designator C?, comment 3.3uF, 16V
WCAP-CSGP Multilayer Ceramic Chip Capacitor, General Purpose, size 1206, X7R, 3.3uF, 16V; Manufacturer: Wurth Elektronik; Manufacturer Part Number: 885012208039; Capacitance Tolerance: +/-10%; Dissipation Factor: 5%; Isolation Resistance: 0.2GOhm; Technical Reference: X7R1206335K016DFCT10000; Capacitance: 3.3uF; Ceramic Type: X7R; ComponentLink1Description: Manufacturer Link; ComponentLink1URL: http://www.we-online.de; ComponentLink2Description: Datasheet; ComponentLink2URL: https://www.we-online.com/catalog/datasheet/885012208039.pdf; Height: 1.6mm; Length: 3.2mm; Mounting Technology: SMT; Operating Temperature max.: 125C; Operating Temperature min.: -55C; Packaging: Tape and Reel; Rated Voltage: 16V; Size: 1206; Width: 1.6mm
footprint WCAP-CSGP_1206_L3.2W1.6H1.6
pins: 1, 2

## 885012208040
designator C?, comment 4.7uF, 16V
WCAP-CSGP Multilayer Ceramic Chip Capacitor, General Purpose, size 1206, X7R, 4.7uF, 16V; Manufacturer: Wurth Elektronik; Manufacturer Part Number: 885012208040; Capacitance Tolerance: +/-10%; Dissipation Factor: 10%; Isolation Resistance: 0.1GOhm; Technical Reference: X7R1206475K016DFCT10000; Capacitance: 4.7uF; Ceramic Type: X7R; ComponentLink1Description: Manufacturer Link; ComponentLink1URL: http://www.we-online.de; ComponentLink2Description: Datasheet; ComponentLink2URL: https://www.we-online.com/catalog/datasheet/885012208040.pdf; Height: 1.6mm; Length: 3.2mm; Mounting Technology: SMT; Operating Temperature max.: 125C; Operating Temperature min.: -55C; Packaging: Tape and Reel; Rated Voltage: 16V; Size: 1206; Width: 1.6mm
footprint WCAP-CSGP_1206_L3.2W1.6H1.6
pins: 1, 2

## 885012208041
designator C?, comment 10uF, 16V
WCAP-CSGP Multilayer Ceramic Chip Capacitor, General Purpose, size 1206, X7R, 10uF, 16V; Manufacturer: Wurth Elektronik; Manufacturer Part Number: 885012208041; Capacitance Tolerance: +/-10%; Dissipation Factor: 10%; Isolation Resistance: 0.01GOhm; Technical Reference: X7R1206106K016DFCT10000; Capacitance: 10uF; Ceramic Type: X7R; ComponentLink1Description: Manufacturer Link; ComponentLink1URL: http://www.we-online.de; ComponentLink2Description: Datasheet; ComponentLink2URL: https://www.we-online.com/catalog/datasheet/885012208041.pdf; Height: 1.6mm; Length: 3.2mm; Mounting Technology: SMT; Operating Temperature max.: 125C; Operating Temperature min.: -55C; Packaging: Tape and Reel; Rated Voltage: 16V; Size: 1206; Width: 1.6mm
footprint WCAP-CSGP_1206_L3.2W1.6H1.6
pins: 1, 2

## 885012208042
designator C?, comment 220pF, 25V
WCAP-CSGP Multilayer Ceramic Chip Capacitor, General Purpose, size 1206, X7R, 220pF, 25V; Manufacturer: Wurth Elektronik; Manufacturer Part Number: 885012208042; Capacitance Tolerance: +/-10%; Dissipation Factor: 3.5%; Isolation Resistance: 10GOhm; Technical Reference: X7R1206221K025DFCT10000; Capacitance: 220pF; Ceramic Type: X7R; ComponentLink1Description: Manufacturer Link; ComponentLink1URL: http://www.we-online.de; ComponentLink2Description: Datasheet; ComponentLink2URL: https://www.we-online.com/catalog/datasheet/885012208042.pdf; Height: 0.8mm; Length: 3.2mm; Mounting Technology: SMT; Operating Temperature max.: 125C; Operating Temperature min.: -55C; Packaging: Tape and Reel; Rated Voltage: 25V; Size: 1206; Width: 1.6mm
footprint WCAP-CSGP_1206_L3.2W1.6H0.8
pins: 1, 2

## 885012208043
designator C?, comment 330pF, 25V
WCAP-CSGP Multilayer Ceramic Chip Capacitor, General Purpose, size 1206, X7R, 330pF, 25V; Manufacturer: Wurth Elektronik; Manufacturer Part Number: 885012208043; Capacitance Tolerance: +/-10%; Dissipation Factor: 3.5%; Isolation Resistance: 10GOhm; Technical Reference: X7R1206331K025DFCT10000; Capacitance: 330pF; Ceramic Type: X7R; ComponentLink1Description: Manufacturer Link; ComponentLink1URL: http://www.we-online.de; ComponentLink2Description: Datasheet; ComponentLink2URL: https://www.we-online.com/catalog/datasheet/885012208043.pdf; Height: 0.8mm; Length: 3.2mm; Mounting Technology: SMT; Operating Temperature max.: 125C; Operating Temperature min.: -55C; Packaging: Tape and Reel; Rated Voltage: 25V; Size: 1206; Width: 1.6mm
footprint WCAP-CSGP_1206_L3.2W1.6H0.8
pins: 1, 2

## 885012208044
designator C?, comment 470pF, 25V
WCAP-CSGP Multilayer Ceramic Chip Capacitor, General Purpose, size 1206, X7R, 470pF, 25V; Manufacturer: Wurth Elektronik; Manufacturer Part Number: 885012208044; Capacitance Tolerance: +/-10%; Dissipation Factor: 3.5%; Isolation Resistance: 10GOhm; Technical Reference: X7R1206471K025DFCT10000; Capacitance: 470pF; Ceramic Type: X7R; ComponentLink1Description: Manufacturer Link; ComponentLink1URL: http://www.we-online.de; ComponentLink2Description: Datasheet; ComponentLink2URL: https://www.we-online.com/catalog/datasheet/885012208044.pdf; Height: 0.8mm; Length: 3.2mm; Mounting Technology: SMT; Operating Temperature max.: 125C; Operating Temperature min.: -55C; Packaging: Tape and Reel; Rated Voltage: 25V; Size: 1206; Width: 1.6mm
footprint WCAP-CSGP_1206_L3.2W1.6H0.8
pins: 1, 2

## 885012208045
designator C?, comment 680pF, 25V
WCAP-CSGP Multilayer Ceramic Chip Capacitor, General Purpose, size 1206, X7R, 680pF, 25V; Manufacturer: Wurth Elektronik; Manufacturer Part Number: 885012208045; Capacitance Tolerance: +/-10%; Dissipation Factor: 3.5%; Isolation Resistance: 10GOhm; Technical Reference: X7R1206681K025DFCT10000; Capacitance: 680pF; Ceramic Type: X7R; ComponentLink1Description: Manufacturer Link; ComponentLink1URL: http://www.we-online.de; ComponentLink2Description: Datasheet; ComponentLink2URL: https://www.we-online.com/catalog/datasheet/885012208045.pdf; Height: 0.8mm; Length: 3.2mm; Mounting Technology: SMT; Operating Temperature max.: 125C; Operating Temperature min.: -55C; Packaging: Tape and Reel; Rated Voltage: 25V; Size: 1206; Width: 1.6mm
footprint WCAP-CSGP_1206_L3.2W1.6H0.8
pins: 1, 2

## 885012208046
designator C?, comment 1nF, 25V
WCAP-CSGP Multilayer Ceramic Chip Capacitor, General Purpose, size 1206, X7R, 1nF, 25V; Manufacturer: Wurth Elektronik; Manufacturer Part Number: 885012208046; Capacitance Tolerance: +/-10%; Dissipation Factor: 3.5%; Isolation Resistance: 10GOhm; Technical Reference: X7R1206102K025DFCT10000; Capacitance: 1nF; Ceramic Type: X7R; ComponentLink1Description: Manufacturer Link; ComponentLink1URL: http://www.we-online.de; ComponentLink2Description: Datasheet; ComponentLink2URL: https://www.we-online.com/catalog/datasheet/885012208046.pdf; Height: 0.8mm; Length: 3.2mm; Mounting Technology: SMT; Operating Temperature max.: 125C; Operating Temperature min.: -55C; Packaging: Tape and Reel; Rated Voltage: 25V; Size: 1206; Width: 1.6mm
footprint WCAP-CSGP_1206_L3.2W1.6H0.8
pins: 1, 2

## 885012208047
designator C?, comment 1.5nF, 25V
WCAP-CSGP Multilayer Ceramic Chip Capacitor, General Purpose, size 1206, X7R, 1.5nF, 25V; Manufacturer: Wurth Elektronik; Manufacturer Part Number: 885012208047; Capacitance Tolerance: +/-10%; Dissipation Factor: 3.5%; Isolation Resistance: 10GOhm; Technical Reference: X7R1206152K025DFCT10000; Capacitance: 1.5nF; Ceramic Type: X7R; ComponentLink1Description: Manufacturer Link; ComponentLink1URL: http://www.we-online.de; ComponentLink2Description: Datasheet; ComponentLink2URL: https://www.we-online.com/catalog/datasheet/885012208047.pdf; Height: 0.8mm; Length: 3.2mm; Mounting Technology: SMT; Operating Temperature max.: 125C; Operating Temperature min.: -55C; Packaging: Tape and Reel; Rated Voltage: 25V; Size: 1206; Width: 1.6mm
footprint WCAP-CSGP_1206_L3.2W1.6H0.8
pins: 1, 2

## 885012208048
designator C?, comment 2.2nF, 25V
WCAP-CSGP Multilayer Ceramic Chip Capacitor, General Purpose, size 1206, X7R, 2.2nF, 25V; Manufacturer: Wurth Elektronik; Manufacturer Part Number: 885012208048; Capacitance Tolerance: +/-10%; Dissipation Factor: 3.5%; Isolation Resistance: 10GOhm; Technical Reference: X7R1206222K025DFCT10000; Capacitance: 2.2nF; Ceramic Type: X7R; ComponentLink1Description: Manufacturer Link; ComponentLink1URL: http://www.we-online.de; ComponentLink2Description: Datasheet; ComponentLink2URL: https://www.we-online.com/catalog/datasheet/885012208048.pdf; Height: 0.8mm; Length: 3.2mm; Mounting Technology: SMT; Operating Temperature max.: 125C; Operating Temperature min.: -55C; Packaging: Tape and Reel; Rated Voltage: 25V; Size: 1206; Width: 1.6mm
footprint WCAP-CSGP_1206_L3.2W1.6H0.8
pins: 1, 2

## 885012208049
designator C?, comment 3.3nF, 25V
WCAP-CSGP Multilayer Ceramic Chip Capacitor, General Purpose, size 1206, X7R, 3.3nF, 25V; Manufacturer: Wurth Elektronik; Manufacturer Part Number: 885012208049; Capacitance Tolerance: +/-10%; Dissipation Factor: 3.5%; Isolation Resistance: 10GOhm; Technical Reference: X7R1206332K025DFCT10000; Capacitance: 3.3nF; Ceramic Type: X7R; ComponentLink1Description: Manufacturer Link; ComponentLink1URL: http://www.we-online.de; ComponentLink2Description: Datasheet; ComponentLink2URL: https://www.we-online.com/catalog/datasheet/885012208049.pdf; Height: 0.8mm; Length: 3.2mm; Mounting Technology: SMT; Operating Temperature max.: 125C; Operating Temperature min.: -55C; Packaging: Tape and Reel; Rated Voltage: 25V; Size: 1206; Width: 1.6mm
footprint WCAP-CSGP_1206_L3.2W1.6H0.8
pins: 1, 2

## 885012208050
designator C?, comment 4.7nF, 25V
WCAP-CSGP Multilayer Ceramic Chip Capacitor, General Purpose, size 1206, X7R, 4.7nF, 25V; Manufacturer: Wurth Elektronik; Manufacturer Part Number: 885012208050; Capacitance Tolerance: +/-10%; Dissipation Factor: 3.5%; Isolation Resistance: 10GOhm; Technical Reference: X7R1206472K025DFCT10000; Capacitance: 4.7nF; Ceramic Type: X7R; ComponentLink1Description: Manufacturer Link; ComponentLink1URL: http://www.we-online.de; ComponentLink2Description: Datasheet; ComponentLink2URL: https://www.we-online.com/catalog/datasheet/885012208050.pdf; Height: 0.8mm; Length: 3.2mm; Mounting Technology: SMT; Operating Temperature max.: 125C; Operating Temperature min.: -55C; Packaging: Tape and Reel; Rated Voltage: 25V; Size: 1206; Width: 1.6mm
footprint WCAP-CSGP_1206_L3.2W1.6H0.8
pins: 1, 2